# EAGLE library part 1DAH_PT4115 (library Outline)
Small switching mode constant current PS
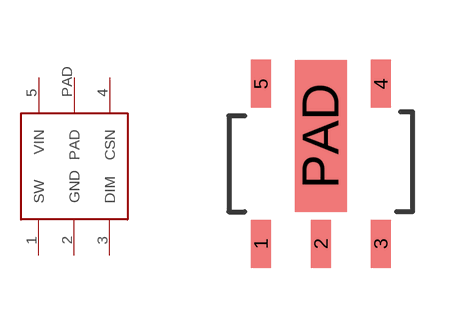
[diagram p0: symbol with the pads of 1DAH_SOT89-5; footprint 1DAH_SOT89-5]

Designator prefix -

## 1DAH_PT4115  [1DAH_SOT89-5]
1  SW
2  GND
3  DIM
4  CSN
5  VIN
PAD  PAD

## Footprint 1DAH_SOT89-5 (pad centres in mm)
smd 0.5 x 1.2: 1 -1.5,-2; 2 0,-2; 3 1.5,-2; 4 1.5,2; 5 -1.5,2
smd 1.3 x 3.8: PAD 0,0.7